# Altium footprint library SON9P50_300X300X80L40X25T238X165N.PcbLib: 1 footprints
Each footprint in its own frame and in the unit in brackets; x right, y up, seen from the top. Pads: shape width x height; smd on the part's side, far side on the other; paste and mask are expansions set on the pad; w line width, h text height; cw(c..) or ccw(c..) is an arc to the next point about the centre after c.
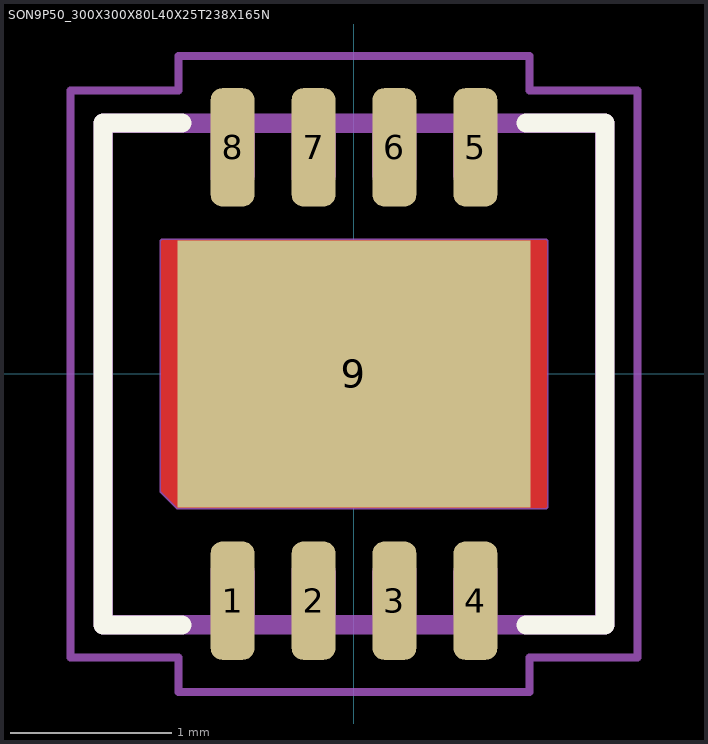
[diagram p0: the footprint, top view; thin cyan lines are the x and y axes]

## SON9P50_300X300X80L40X25T238X165N [mm] "Small Outline No-Lead (SON with Tab), 0.50 mm pitch; 8 pin, 3.00 mm L X 3.00 mm W X 0.80 mm H body"
height 0.8
pads (9):
  rrect52% 0.27x0.73 smd: 1(-0.75,-1.4) 2(-0.25,-1.4) 3(0.25,-1.4) 4(0.75,-1.4) 5(0.75,1.4) 6(0.25,1.4) 7(-0.25,1.4) 8(-0.75,1.4)
  rect 2.18x1.65 smd paste-2.18 mask-2.18: 9(0,0)
Top Layer:
  region: 1.19,0 1.19,-0.815 1.19,-0.817 1.189,-0.818 1.189,-0.82 1.188,-0.821 1.187,-0.822 1.186,-0.823 1.185,-0.824 1.183,-0.824 1.182,-0.825 -1.09,-0.825 -1.19,-0.725 -1.19,0.815 -1.19,0.817 -1.189,0.818 -1.189,0.82 -1.188,0.821 -1.187,0.822 -1.186,0.823 -1.185,0.824 -1.183,0.824 -1.182,0.825 1.18,0.825 1.182,0.825 1.183,0.824 1.185,0.824 1.186,0.823 1.187,0.822 1.188,0.821 1.189,0.82 1.189,0.818 1.19,0.817 1.19,0.815
Top Overlay:
  lines w0.12: -1.065,-1.55 -1.55,-1.55 -1.55,1.55 -1.065,1.55 ; 1.065,-1.55 1.55,-1.55 1.55,1.55 1.065,1.55
Top Paste:
  region: 1.005,-0.635 0.095,-0.635 0.095,-0.095 1.005,-0.095
  region: 1.005,0.095 0.095,0.095 0.095,0.635 1.005,0.635
  region: -0.095,-0.635 -1.005,-0.635 -1.005,-0.095 -0.095,-0.095
  region: -0.095,0.095 -1.005,0.095 -1.005,0.635 -0.095,0.635
Top Solder:
  region: 1.19,0 1.19,-0.815 1.19,-0.817 1.189,-0.818 1.189,-0.82 1.188,-0.821 1.187,-0.822 1.186,-0.823 1.185,-0.824 1.183,-0.824 1.182,-0.825 -1.09,-0.825 -1.19,-0.725 -1.19,0.815 -1.19,0.817 -1.189,0.818 -1.189,0.82 -1.188,0.821 -1.187,0.822 -1.186,0.823 -1.185,0.824 -1.183,0.824 -1.182,0.825 1.18,0.825 1.182,0.825 1.183,0.824 1.185,0.824 1.186,0.823 1.187,0.822 1.188,0.821 1.189,0.82 1.189,0.818 1.19,0.817 1.19,0.815
Mechanical 11:
  lines w0.12: -1.55,-1.55 -1.55,1.55 1.55,1.55 1.55,-1.55 -1.55,-1.55
Mechanical 12:
  lines w0.025: -1.5,-1.5 -1.5,1.5 1.5,1.5 1.5,-1.5 -1.5,-1.5 ; -1.19,-0.725 -1.19,0.815 cw(c-1.18,0.815) -1.18,0.825 1.18,0.825 cw(c1.18,0.815) 1.19,0.815 1.19,-0.815 cw(c1.18,-0.815) 1.18,-0.825 -1.09,-0.825 -1.19,-0.725 ; -0.875,-1.5 -0.875,-1.225 cw(c-0.75,-1.225) -0.625,-1.225 -0.625,-1.5 -0.875,-1.5 ; -0.875,1.225 ccw(c-0.75,1.225) -0.625,1.225 -0.625,1.5 -0.875,1.5 -0.875,1.225 ; -0.375,-1.5 -0.375,-1.225 cw(c-0.25,-1.225) -0.125,-1.225 -0.125,-1.5 -0.375,-1.5 ; -0.375,1.225 ccw(c-0.25,1.225) -0.125,1.225 -0.125,1.5 -0.375,1.5 -0.375,1.225 ; 0.125,-1.5 0.125,-1.225 cw(c0.25,-1.225) 0.375,-1.225 0.375,-1.5 0.125,-1.5 ; 0.125,1.225 ccw(c0.25,1.225) 0.375,1.225 0.375,1.5 0.125,1.5 0.125,1.225 ; 0.625,-1.5 0.625,-1.225 cw(c0.75,-1.225) 0.875,-1.225 0.875,-1.5 0.625,-1.5 ; 0.625,1.225 ccw(c0.75,1.225) 0.875,1.225 0.875,1.5 0.625,1.5 0.625,1.225
Mechanical 15:
  circle w0.05: c0,0 r0.25
  lines w0.05: -0.35,0 0.35,0 ; 0,-0.35 0,0.35 ; -1.75,-1.75 -1.75,1.75 -1.085,1.75 -1.085,1.965 1.085,1.965 1.085,1.75 1.75,1.75 1.75,-1.75 1.085,-1.75 1.085,-1.965 -1.085,-1.965 -1.085,-1.75 -1.75,-1.75
Mechanical 16:
  text ".Designator" at 0,0 h1.2
3D body: height 0.8, standoff 0, extent -1.499,-1.549 1.501,1.551